# EAGLE library part LM2575HVS (library IntegratedLib)
Regulador de tensão chaveado 5V 1A Automotivo SMD (TO-263-5)
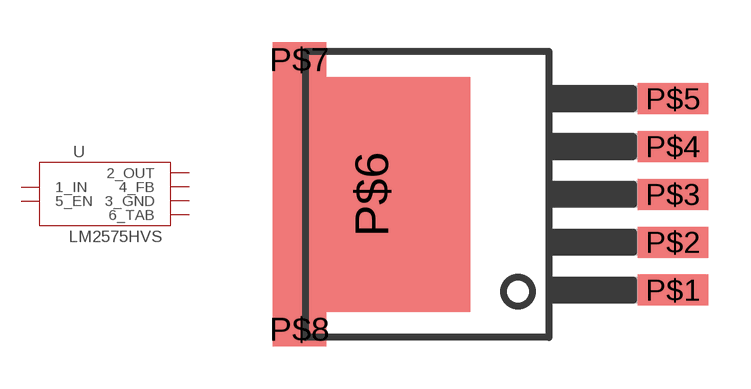
[diagram p42: symbol with the pads of TO-263-5; footprint TO-263-5]

Designator prefix U

## LM2575HVS (FABRICANTE: TEXAS INSTRUMENTS; PARTNUMBER: LM2575HVS; TIPO: CIRCUITO INTEGRADO)  [TO-263-5]
P$1  1_IN
P$2  2_OUT
P$3  3_GND  pwr
P$4  4_FB
P$5  5_EN
P$6  6_TAB
P$7  6_TAB
P$8  6_TAB

## Footprint TO-263-5 (pad centres in mm)
smd 2.5 x 1.1: P$1 4.4,-3.4; P$2 4.4,-1.7; P$3 4.4,0; P$4 4.4,1.7; P$5 4.4,3.4
smd 7 x 8.33: P$6 -6.3,0
smd 1.9 x 1.23: P$7 -8.85,4.79; P$8 -8.85,-4.79